# EAGLE library part G2XX3---N20_SMD (library custom)
MSP430G2XX1 PDIP (N) 20 Pin Package
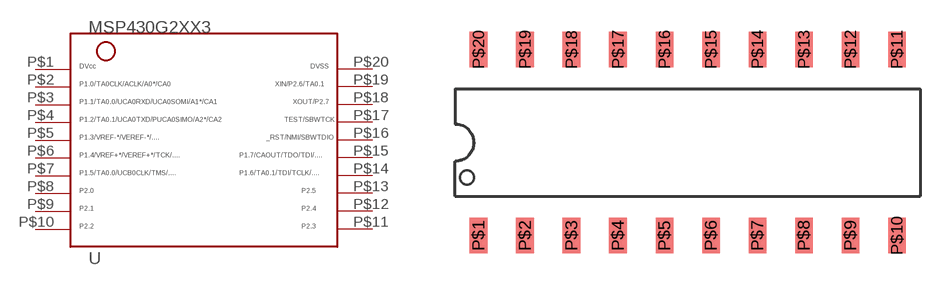
[diagram p0: symbol with the pads of N20_SMD; footprint N20_SMD]

Designator prefix -

## G2XX3---N20_SMD  [N20_SMD]
P$1  1
P$2  2
P$3  3
P$4  4
P$5  5
P$6  6
P$7  7
P$8  8
P$9  9
P$10  10
P$11  11
P$12  12
P$13  13
P$14  14
P$15  15
P$16  16
P$17  17
P$18  18
P$19  19
P$20  20

## Footprint N20_SMD (pad centres in mm)
smd 0.965 x 1.93: P$1 -11.43,-5.08; P$2 -8.89,-5.08; P$3 -6.35,-5.08; P$4 -3.81,-5.08; P$5 -1.27,-5.08; P$6 1.27,-5.08; P$7 3.81,-5.08; P$8 6.35,-5.08; P$9 8.89,-5.08; P$10 11.43,-5.08; P$11 11.43,5.08; P$12 8.89,5.08; P$13 6.35,5.08; P$14 3.81,5.08; P$15 1.27,5.08; P$16 -1.27,5.08; P$17 -3.81,5.08; P$18 -6.35,5.08; P$19 -8.89,5.08; P$20 -11.43,5.08